# EAGLE library part STL90N6F7 (library STL90N6F7)
N-channel 60 V, 4.6 m typ., 90 A STripFET F7 Power MOSFET in a PowerFLAT 5x6 package Source: Datasheet <https://www.st.com/resource/en/datasheet/stl90n6f7.pdf>
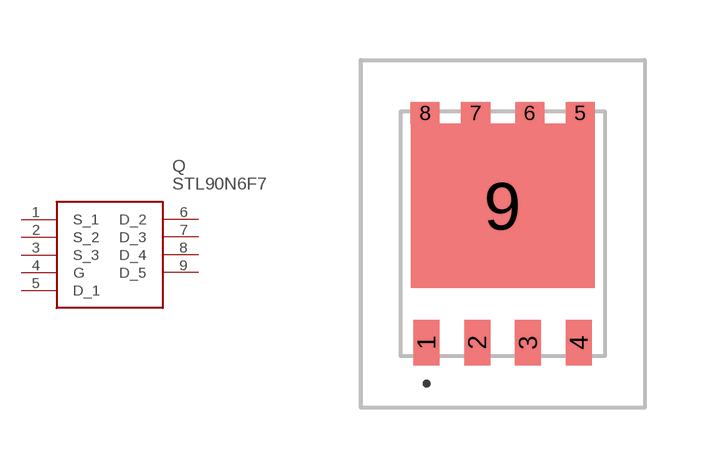
[diagram p0: symbol with the pads of STL90N6F7; footprint STL90N6F7]

Designator prefix Q

## STL90N6F7 (Description: N-channel 60 V, 4.6 m typ., 90 A STripFET F7 Power MOSFET in a PowerFLAT 5x6 package; Height: 1mm; Manufacturer_Name: STMicroelectronics; Manufacturer_Part_Number: STL90N6F7; Mouser_Part_Number: 511-STL90N6F7; Mouser_Price-Stock: https://www.mouser.co.uk/ProductDetail/STMicroelectronics/STL90N6F7?qs=bKenfurwlsmCpdlaRCdwag%3D%3D)  [STL90N6F7]
1  S_1
2  S_2
3  S_3
4  G
5  D_1
6  D_2
7  D_3
8  D_4
9  D_5

## Footprint STL90N6F7 (pad centres in mm)
PowerFLAt5x6_23
smd 0.65 x 1.15: 1 -1.905,-2.725; 2 -0.635,-2.725; 3 0.635,-2.725; 4 1.905,-2.725
smd 0.725 x 0.55: 5 1.938,3.025; 6 0.675,3.025; 7 -0.675,3.025; 8 -1.938,3.025
smd 4.6 x 4.1: 9 0,0.7